# Altium footprint library MBAL_0220CSP2.PcbLib: 1 footprints
Each footprint in its own frame and in the unit in brackets; x right, y up, seen from the top. Pads: shape width x height; smd on the part's side, far side on the other; paste and mask are expansions set on the pad; w line width, h text height; cw(c..) or ccw(c..) is an arc to the next point about the centre after c.
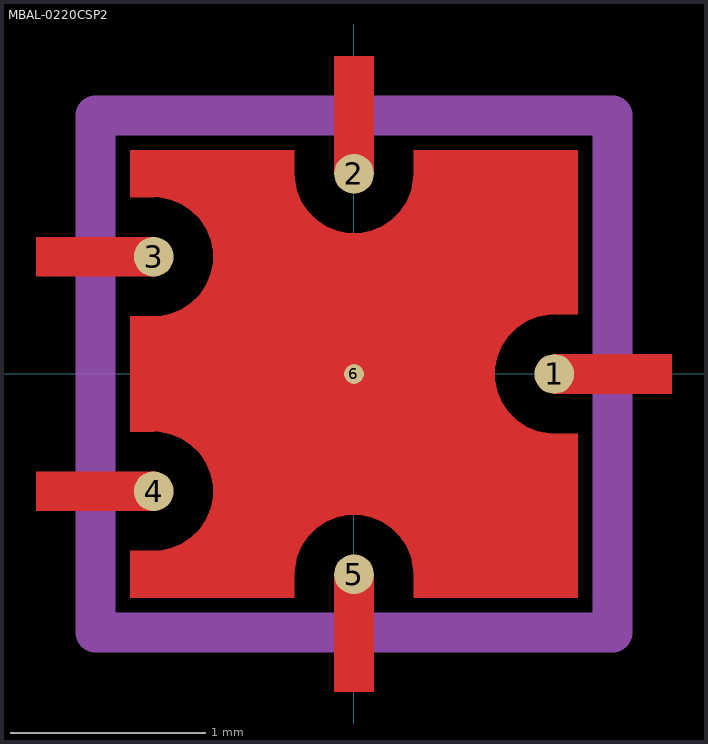
[diagram p0: the footprint, top view; thin cyan lines are the x and y axes]

## MBAL-0220CSP2 [mil] "Marki's on-board Balun"
pads (7):
  round 8 smd: 1(40.3,0) 2(0,40.3) 3(-40.3,23.6) 4(-40.3,-23.6) 5(0,-40.3)
  round 4 smd: 6(0,0)
  round 1 smd: 6(0,0)
Top Layer:
  region: -40,27.6 -64,27.6 -64,19.6 -40,19.6
  region: -4,-40 -4,-64 4,-64 4,-40
  region: 4,40 4,64 -4,64 -4,40
  rectangle: 40,-4 64,4
  region: -40,-19.6 -64,-19.6 -64,-27.6 -40,-27.6
  region: -45,-45 -45,-35.6 -40.3,-35.6 -39.12,-35.54 -36.82,-35.08 -34.64,-34.18 -32.69,-32.88 -31.02,-31.21 -29.72,-29.26 -28.82,-27.08 -28.36,-24.78 -28.36,-22.42 -28.82,-20.12 -29.72,-17.94 -31.02,-15.99 -32.69,-14.32 -34.64,-13.02 -36.82,-12.12 -39.12,-11.66 -40.3,-11.6 -45,-11.6 -45,11.6 -40.3,11.6 -39.12,11.66 -36.82,12.12 -34.64,13.02 -32.69,14.32 -31.02,15.99 -29.72,17.94 -28.82,20.12 -28.36,22.42 -28.36,24.78 -28.82,27.08 -29.72,29.26 -31.02,31.21 -32.69,32.88 -34.64,34.18 -36.82,35.08 -39.12,35.54 -40.3,35.6 -45,35.6 -45,45 -12,45 -12,40.3 -11.94,39.12 -11.48,36.82 -10.58,34.64 -9.28,32.69 -7.61,31.02 -5.66,29.72 -3.48,28.82 -1.18,28.36 1.18,28.36 3.48,28.82 5.66,29.72 7.61,31.02 9.28,32.69 10.58,34.64 11.48,36.82 11.94,39.12 12,40.3 12,45 45,45 45,12 40.3,12 39.12,11.94 36.82,11.48 34.64,10.58 32.69,9.28 31.02,7.61 29.72,5.66 28.82,3.48 28.36,1.18 28.36,-1.18 28.82,-3.48 29.72,-5.66 31.02,-7.61 32.69,-9.28 34.64,-10.58 36.82,-11.48 39.12,-11.94 40.3,-12 45,-12 45,-45 12,-45 12,-40.3 11.94,-39.12 11.48,-36.82 10.58,-34.64 9.28,-32.69 7.61,-31.02 5.66,-29.72 3.48,-28.82 1.18,-28.36 -1.18,-28.36 -3.48,-28.82 -5.66,-29.72 -7.61,-31.02 -9.28,-32.69 -10.58,-34.64 -11.48,-36.82 -11.94,-39.12 -12,-40.3 -12,-45
Top Paste:
  region: -45,-45 -45,-35.6 -40.3,-35.6 -37.96,-35.37 -33.63,-33.58 -30.32,-30.27 -28.53,-25.94 -28.53,-21.26 -30.32,-16.93 -33.63,-13.62 -37.96,-11.83 -40.3,-11.6 -45,-11.6 -45,11.6 -40.3,11.6 -37.96,11.83 -33.63,13.62 -30.32,16.93 -28.53,21.26 -28.53,25.94 -30.32,30.27 -33.63,33.58 -37.96,35.37 -40.3,35.6 -45,35.6 -45,45 -12,45 -12,40.3 -11.77,37.96 -9.98,33.63 -6.67,30.32 -2.34,28.53 2.34,28.53 6.67,30.32 9.98,33.63 11.77,37.96 12,40.3 12,45 45,45 45,12 40.3,12 37.96,11.77 33.63,9.98 30.32,6.67 28.53,2.34 28.53,-2.34 30.32,-6.67 33.63,-9.98 37.96,-11.77 40.3,-12 45,-12 45,-45 12,-45 12,-40.3 11.77,-37.96 9.98,-33.63 6.67,-30.32 2.34,-28.53 -2.34,-28.53 -6.67,-30.32 -9.98,-33.63 -11.77,-37.96 -12,-40.3 -12,-45
Top Solder:
  rectangle: -50,-50 50,50
Mechanical 1:
  lines w8: -52,-52 -52,52 52,52 52,-52 -52,-52
3D body "2.5x2.5mm CSP2.STEP": height 35.3, standoff -1, extent -49.21,-49.21 49.21,49.21